# Altium schematic symbol library UNeedle.SchLib: 1 symbol
Pins are listed as number, name and electrical type; pins without a type are passive.

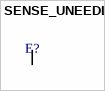
[diagram p0: symbol SENSE_UNEEDLE]

## SENSE_UNEEDLE
designator E?, comment 2.5 mm  (value not drawn)
Microneedle electrode - 2.5 mm diameter
footprint PCBComponent_1
pins: 1 E